# Altium footprint library LGA10.PcbLib: 1 footprints
Each footprint in its own frame and in the unit in brackets; x right, y up, seen from the top. Pads: shape width x height; smd on the part's side, far side on the other; paste and mask are expansions set on the pad; w line width, h text height; cw(c..) or ccw(c..) is an arc to the next point about the centre after c.
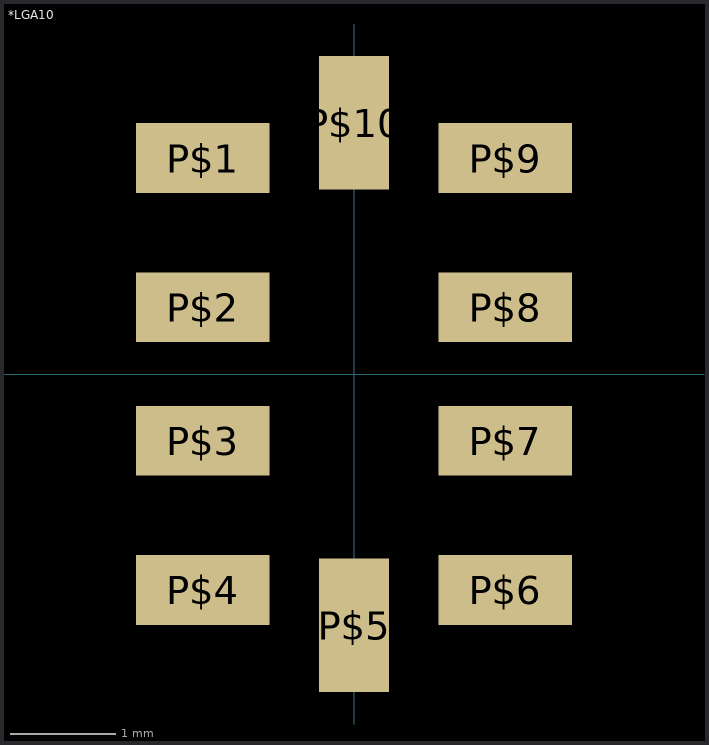
[diagram p0: the footprint, top view; thin cyan lines are the x and y axes]

## *LGA10 [mm]
pads (10):
  rect 1.27x0.66 smd: P$1(-1.435,2.05) P$2(-1.435,0.635) P$3(-1.435,-0.635) P$4(-1.435,-2.05) P$6(1.435,-2.05) P$7(1.435,-0.635) P$8(1.435,0.635) P$9(1.435,2.05)
  rect 0.66x1.27 smd: P$5(0,-2.385) P$10(0,2.385)